# Altium schematic symbol library IP5389_SCHLIB.SchLib: 13 symbols
Pins are listed as number, name and electrical type; pins without a type are passive.

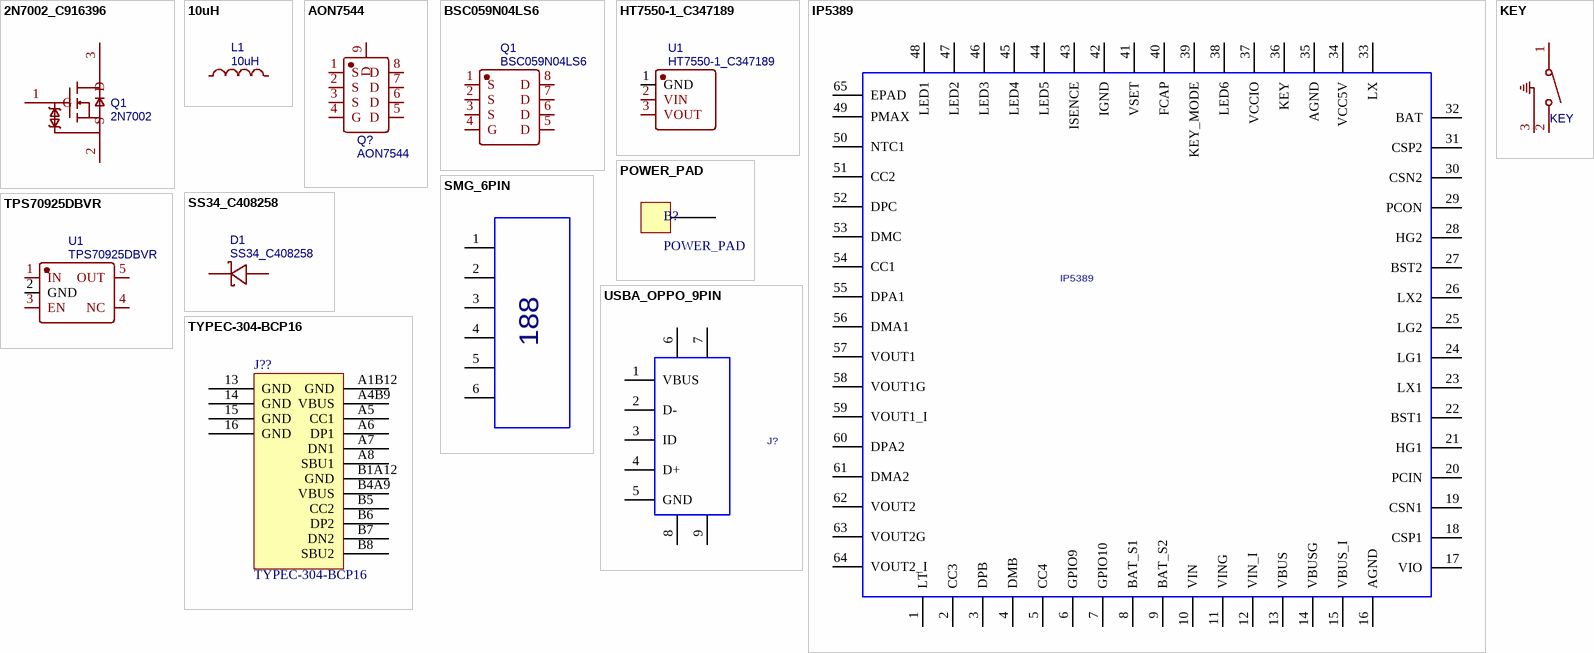
[diagram p0: symbols 2N7002_C916396 to USBA_OPPO_9PIN]

## 2N7002_C916396
designator Q1, comment 2N7002
2N7002_C916396; BOM_Manufacturer: JSMSEMI(杰盛微); Contributor: LCSC; BOM_Supplier: LCSC; BOM_Supplier Part: C916396; BOM_Manufacturer Part: 2N7002; BOM_JLCPCB Part Class: Extended Part; spicePre: Q; spiceSymbolName: 2N7002_C916396
footprint SOT-23-3_L2.9-W1.3-P1.90-LS2.4-BR
pins: 1 G, 2 S, 3 D

## 10uH
designator L1
功率电感10uH 6A RDC <0.01R; BOM_Manufacturer: Sunltech Tech; BOM_Manufacturer Part: SLO1365S100MTT; nameAlias: Inductance; Contributor: LCSC; BOM_Supplier: LCSC; BOM_Supplier Part: C242228; BOM_JLCPCB Part Class: Extended Part; spicePre: L; spiceSymbolName: SLO1365S100MTT
footprint IND-SMD_L13.4-W12.6
pins: 1, 2

## AON7544
designator Q?
NMOS 30V 30A; BOM_Manufacturer: Alpha & Omega Semicon; Contributor: LCSC; BOM_Supplier: LCSC; BOM_Supplier Part: C315567; BOM_Manufacturer Part: AON7544; BOM_JLCPCB Part Class: Extended Part; spicePre: Q; spiceSymbolName: AON7544
footprint DFN-8_L3.0-W3.0-P0.65-BL
pins: 1 S, 2 S, 3 S, 4 G, 5 D, 6 D, 7 D, 8 D, 9 D

## BSC059N04LS6
designator Q1
BOM_Manufacturer: Infineon Technologies; Contributor: LCSC; BOM_Supplier: LCSC; BOM_Supplier Part: C534356; BOM_Manufacturer Part: BSC059N04LS6; BOM_JLCPCB Part Class: Extended Part; spicePre: Q; spiceSymbolName: BSC059N04LS6
footprint PG-TDSON-8_L5.0-W6.0-P1.27-BL-EP
pins: 1 S, 2 S, 3 S, 4 G, 5 D, 6 D, 7 D, 8 D

## HT7550-1_C347189
designator U1
5V TinyPower LDO; BOM_Manufacturer: Youtai Semiconductor Co., Ltd.; Contributor: LCSC; BOM_Supplier: LCSC; BOM_Supplier Part: C347189; BOM_Manufacturer Part: HT7550-1; BOM_JLCPCB Part Class: Extended Part; spicePre: U; spiceSymbolName: HT7550-1_C347189
footprint SOT89_N (4.6x4.3x1.6mm(长宽高)                联系卖家 免费查找封装)
pins: 1 GND, 2 VIN, 3 VOUT

## IP5389
designator U?
IP5389 QFN64; PCB DECAL: QFN64
footprint QFN64
pins: 1 LT, 2 CC3, 3 DPB, 4 DMB, 5 CC4, 6 GPIO9, 7 GPIO10, 8 BAT_S1, 9 BAT_S2, 10 VIN, 11 VING, 12 VIN_I, 13 VBUS, 14 VBUSG, 15 VBUS_I, 16 AGND, 17 VIO, 18 CSP1, 19 CSN1, 20 PCIN, 21 HG1, 22 BST1, 23 LX1, 24 LG1, 25 LG2, 26 LX2, 27 BST2, 28 HG2, 29 PCON, 30 CSN2, 31 CSP2, 32 BAT, 33 LX, 34 VCC5V, 35 AGND, 36 KEY, 37 VCCIO, 38 LED6, 39 KEY_MODE, 40 FCAP, 41 VSET, 42 IGND, 43 ISENCE, 44 LED5, 45 LED4, 46 LED3, 47 LED2, 48 LED1, 49 PMAX, 50 NTC1, 51 CC2, 52 DPC, 53 DMC, 54 CC1, 55 DPA1, 56 DMA1, 57 VOUT1, 58 VOUT1G, 59 VOUT1_I, 60 DPA2, 61 DMA2, 62 VOUT2, 63 VOUT2G, 64 VOUT2_I, 65 EPAD

## KEY
designator KEY, comment TC-1109DE-C-G  (value not drawn)
KEY; BOM_Manufacturer: XKB Enterprise; Contributor: LCSC; BOM_Supplier: LCSC; BOM_Supplier Part: C400325; BOM_Manufacturer Part: TC-1109DE-C-G; BOM_JLCPCB Part Class: Extended Part; spicePre: S; spiceSymbolName: TC-1109DE-C-G
footprint SWITCH
pins: 1, 2, 3

## POWER_PAD
designator B?
footprint POWER_PAD
pins: 1

## SMG_6PIN
designator U?  (value not drawn)
188数码管; PCB DECAL: YF2252SR-6
footprint 188SMG
pins: 1, 2, 3, 4, 5, 6
text: 188

## SS34_C408258
designator D1
BOM_Manufacturer: SLKORMICRO Elec.; BOM_Manufacturer Part: SS34; Contributor: LCSC; BOM_Supplier: LCSC; BOM_Supplier Part: C408258; BOM_JLCPCB Part Class: Extended Part; spicePre: D; spiceSymbolName: SS34_C408258
footprint SS34-SMA (SMA)
pins: 1 C, 2 A

## TPS70925DBVR
designator U1
5V 超低功耗LDO; BOM_Manufacturer: Texas Instruments; Contributor: LCSC; BOM_Supplier: LCSC; BOM_Supplier Part: C575570; BOM_Manufacturer Part: TPS70925DBVR; BOM_JLCPCB Part Class: Extended Part; spicePre: U; spiceSymbolName: TPS70925DBVR
footprint SOT-23-5_L3.0-W1.7-P0.95-LS2.8-BL
pins: 1 IN, 2 GND, 3 EN, 4 NC, 5 OUT

## TYPEC-304-BCP16
designator J??
TYPEC-16P
footprint TYPE-C-16P
pins: 13 GND, 14 GND, 15 GND, 16 GND, A1B12 GND, A4B9 VBUS, A5 CC1, A6 DP1, A7 DN1, A8 SBU1, B1A12 GND, B4A9 VBUS, B5 CC2, B6 DP2, B7 DN2, B8 SBU2

## USBA_OPPO_9PIN
designator J?  (value not drawn)
USB母座; PCB DECAL: USBA_OPPO_5PIN_6.3
footprint USBA_OPPO_5PIN_6.3
pins: 1 VBUS, 2 D-, 3 ID, 4 D+, 5 GND, 6, 7, 8, 9